# Altium footprint library Misc SMT.PcbLib: 40 footprints (part 1 of 3)
Each footprint in its own frame and in the unit in brackets; x right, y up, seen from the top. Pads: shape width x height; smd on the part's side, far side on the other; paste and mask are expansions set on the pad; w line width, h text height; cw(c..) or ccw(c..) is an arc to the next point about the centre after c.
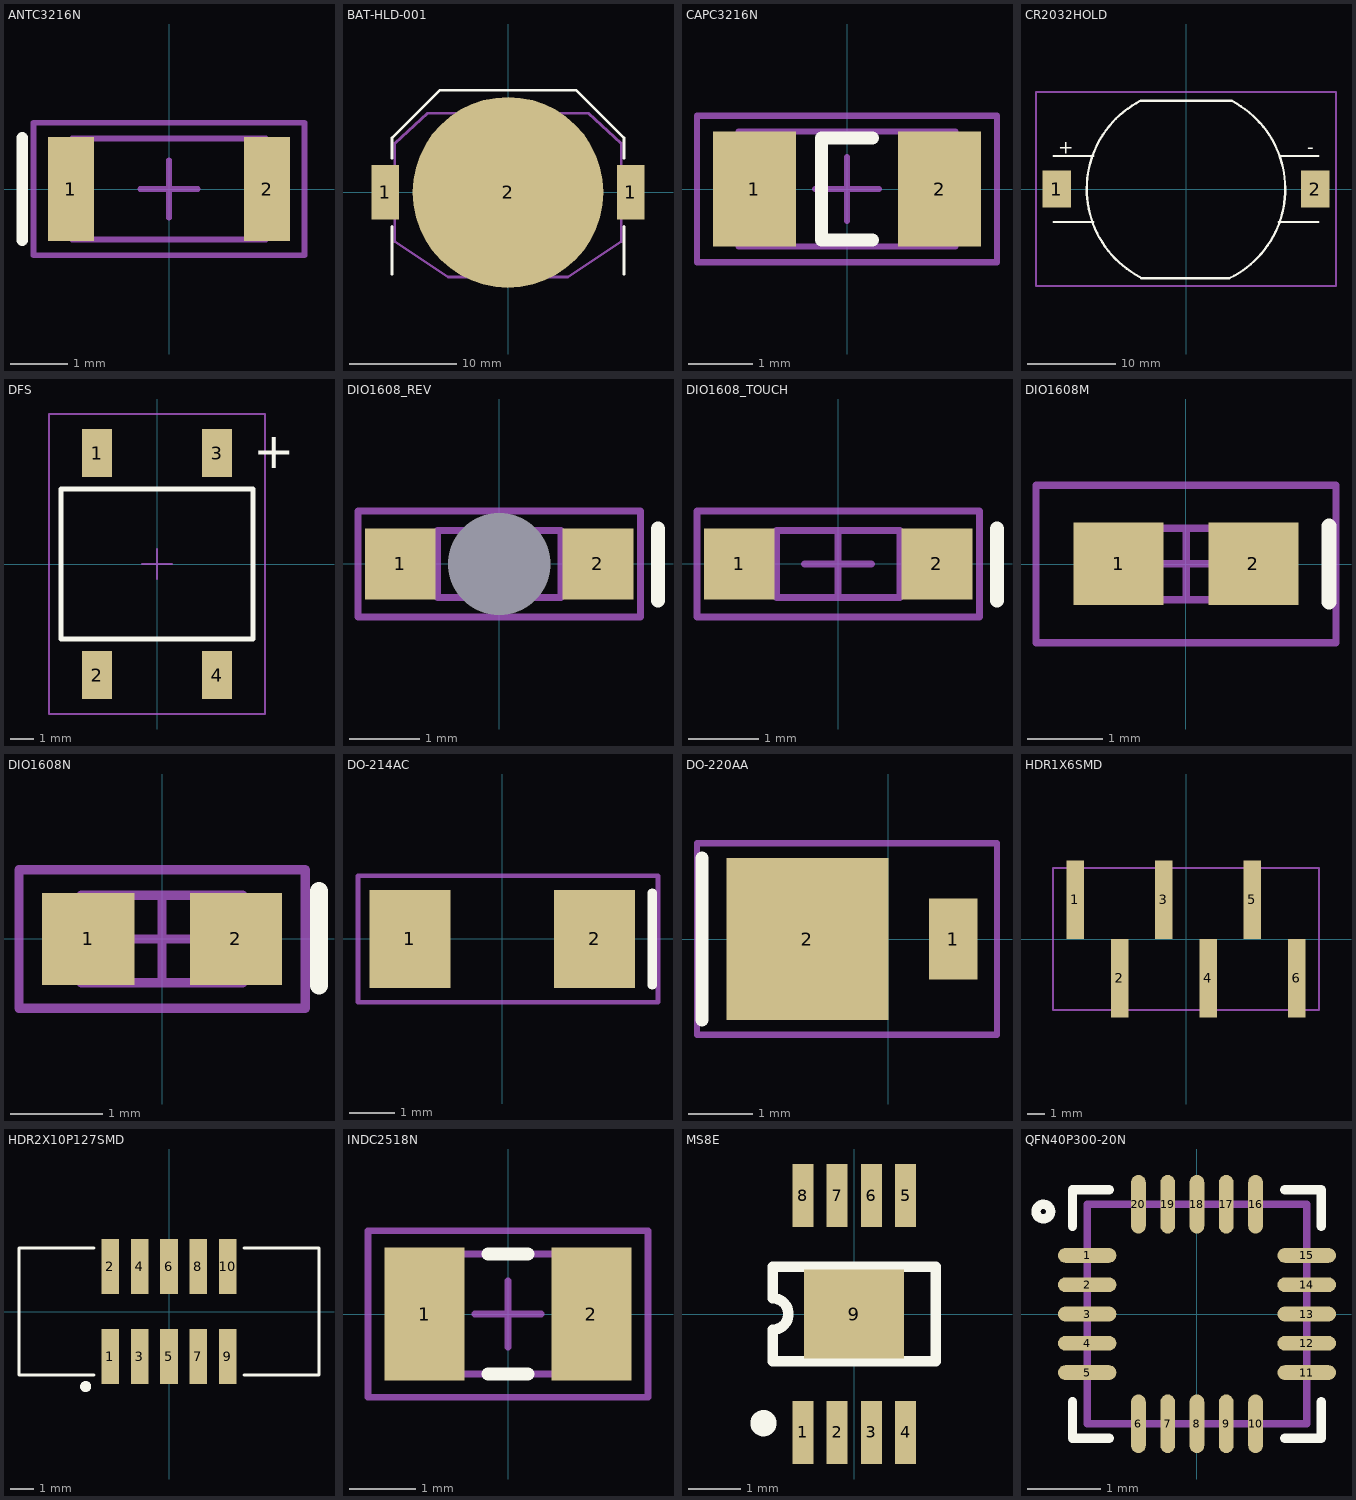
[diagram p0: the footprints below, top view; thin cyan lines are the x and y axes]

## ANTC3216N [mm] "Chip Antenna, Body 3.2x1.6mm, IPC Medium Density"
height 0.71
pads (2):
  rect 0.8x1.8 smd: 1(-1.7,0) 2(1.7,0)
Top Overlay:
  lines w0.2: -2.54,-0.889 -2.54,0.889
Mechanical 13:
  lines w0.1: -1.675,-0.875 -1.675,0.875 1.675,0.875 1.675,-0.875 -1.675,-0.875
Mechanical 15:
  lines w0.1: -0.5,0 0.5,0 ; 0,-0.5 0,0.5 ; -2.35,-1.15 -2.35,1.15 2.35,1.15 2.35,-1.15 -2.35,-1.15
3D body: height 0.71, standoff 0, extent -1.675,-0.875 1.675,0.875

## BAT-HLD-001 [mm] "CR2032 Battery Holder"
height 4.318
pads (3):
  rect 2.54x5.08 smd: 1(-11.43,0) 1(11.43,0)
  round 17.78 smd: 2(0,0)
Top Overlay:
  lines w0.254: -10.795,-7.62 -10.795,-3.175 ; -10.795,3.175 -10.795,5.08 -6.35,9.525 6.35,9.525 10.795,5.08 10.795,3.175 ; 10.795,-7.62 10.795,-3.175
Mechanical 13:
  lines w0.254: -10.541,-4.572 -10.541,4.572 -7.493,7.366 7.493,7.366 10.541,4.572 10.541,-4.572 5.588,-7.874 -5.588,-7.874 -10.541,-4.572
3D body: height 4.32, standoff 0, extent -10.541,-7.874 10.541,7.366

## CAPC3216N [mm] "Chip Capacitor, Body 3.2x1.6mm, IPC Medium Density"
height 1.35
pads (2):
  rect 1.3x1.8 smd: 1(-1.45,0) 2(1.45,0)
Top Overlay:
  lines w0.2: 0.4,-0.8 -0.4,-0.8 -0.4,0.8 0.4,0.8
Mechanical 13:
  lines w0.1: -1.7,-0.9 1.7,-0.9 1.7,0.9 -1.7,0.9 -1.7,-0.9
Mechanical 15:
  lines w0.1: -0.5,0 0.5,0 ; 0,-0.5 0,0.5 ; -2.35,-1.15 2.35,-1.15 2.35,1.15 -2.35,1.15 -2.35,-1.15
3D body: height 1.35, standoff 0, extent -1.7,-0.9 1.7,0.9

## CR2032HOLD [mm] "BU2032SM-HD-G"
height 5.3
pads (2):
  rect 3.2x4.2 smd: 1(-14.65,0) 2(14.65,0)
Top Overlay:
  lines w0.254: -15,-3.75 -10.5,-3.75 ; -15,3.75 -10.5,3.75 ; -5.229,-9.961 cw(c0,0) -5.134,10.01 5.18,10.01 ; -5.079,-10.111 4.932,-10.111 ccw(c0,0) 5.229,9.961 ; 10.5,-3.75 15,-3.75 ; 10.75,3.75 15,3.75
  text "-" at 13.75,4 h1.52
  text "+" at -14.5,4 h1.52
Mechanical 15:
  lines w0.254: -17,-11 17,-11 17,11 -17,11 -17,-11
3D body: height 5.3, standoff 0, extent -9.921,-10.23 10,9.73

## DFS [mil] "Bridge rectifier - Comchip DFxxxS"
height 100
pads (4):
  rect 50x80 smd: 1(-100,185) 2(-100,-185) 3(100,185) 4(100,-185)
Top Overlay:
  lines w7.87: -160,-125 160,-125 160,125 -160,125 -160,-125
  text "+" at 160,160 h60
Mechanical 15:
  lines w3.94: -25,0 25,0 ; 0,-25 0,25 ; -180,-250 -180,250 180,250 180,-250 -180,-250
3D body: height 100, standoff 0, extent -160,-125 160,125

## DIO1608_REV [mm] "Chip LED, Body 1.6x0.8mm, IPC Medium Density"
height 0.85
pads (3):
  rect 1x1 smd: 1(-1.4,0) 2(1.4,0)
  round 0 hole 1.45 mask+0.051: 2(0,0)
Top Overlay:
  lines w0.2: 2.25,-0.516 2.25,0.5
Mechanical 13:
  lines w0.1: -0.875,-0.475 0.875,-0.475 0.875,0.475 -0.875,0.475 -0.875,-0.475
Mechanical 15:
  lines w0.1: -0.475,0 0.475,0 ; 0,-0.475 0,0.475 ; -2,-0.75 2,-0.75 2,0.75 -2,0.75 -2,-0.75
3D body: height 0.85, standoff 0, extent -0.875,-0.475 0.875,0.475

## DIO1608_TOUCH [mm] "Chip LED, Body 1.6x0.8mm, IPC Medium Density"
height 0.85
pads (2):
  rect 1x1 smd: 1(-1.4,0) 2(1.4,0)
Top Overlay:
  lines w0.2: 2.25,-0.516 2.25,0.5
Mechanical 13:
  lines w0.1: -0.875,-0.475 0.875,-0.475 0.875,0.475 -0.875,0.475 -0.875,-0.475
Mechanical 15:
  lines w0.1: -0.475,0 0.475,0 ; 0,-0.475 0,0.475 ; -2,-0.75 2,-0.75 2,0.75 -2,0.75 -2,-0.75
3D body: height 0.85, standoff 0, extent -0.875,-0.475 0.875,0.475

## DIO1608M [mm] "Chip LED, Body 1.6x0.8mm, IPC Low Density"
height 0.85
pads (2):
  rect 1.2x1.1 smd: 1(-0.9,0) 2(0.9,0)
Top Overlay:
  lines w0.2: 1.905,-0.508 1.905,0.508
Mechanical 13:
  lines w0.1: -0.875,-0.475 0.875,-0.475 0.875,0.475 -0.875,0.475 -0.875,-0.475
Mechanical 15:
  lines w0.1: -0.475,0 0.475,0 ; 0,-0.475 0,0.475 ; -2,-1.05 2,-1.05 2,1.05 -2,1.05 -2,-1.05
3D body: height 0.85, standoff 0, extent -0.875,-0.475 0.875,0.475

## DIO1608N [mm] "Chip LED, Body 1.6x0.8mm, IPC Medium Density"
height 0.85
pads (2):
  rect 1x1 smd: 1(-0.8,0) 2(0.8,0)
Top Overlay:
  lines w0.2: 1.7,-0.5 1.7,0.516
Mechanical 13:
  lines w0.1: -0.875,-0.475 -0.875,0.475 0.875,0.475 0.875,-0.475 -0.875,-0.475
Mechanical 15:
  lines w0.1: -0.475,0 0.475,0 ; 0,-0.475 0,0.475 ; -1.55,-0.75 -1.55,0.75 1.55,0.75 1.55,-0.75 -1.55,-0.75
3D body: height 0.85, standoff 0, extent -0.875,-0.475 0.875,0.475

## DO-214AC [mil] "Surface mount diode, \"SMA\""
height 110
pads (2):
  rect 70x85 smd: 1(-80,0) 2(80,0)
Top Overlay:
  lines w7.87: 130,-40 130,40
Mechanical 15:
  lines w3.94: -125,-55 135,-55 135,55 -125,55 -125,-55

## DO-220AA [mil] "Surface mount diode, \"SMP\""
height 45
pads (2):
  rect 30x50 smd: 1(40,0)
  rect 100x100 smd: 2(-50,0)
Top Overlay:
  lines w7.87: -115,-50 -115,50
Mechanical 15:
  lines w3.94: -118.11,-59.06 -118.11,59.06 66.93,59.06 66.93,-59.06 -118.11,-59.06

## HDR1X6SMD [mm]
pads (6):
  rect 1x4.5 smd: 1(-6.35,2.25) 2(-3.81,-2.25) 3(-1.27,2.25) 4(1.27,-2.25) 5(3.81,2.25) 6(6.35,-2.25)
Mechanical 13:
  lines w0.127: -7.62,-4.064 7.62,-4.064 7.62,4.064 -7.62,4.064 -7.62,-4.064
3D body: height 9.9, standoff 0, extent -7.62,-1.27 7.62,1.27

## HDR2X10P127SMD [mm]
pads (10):
  rect 0.76x2.4 smd: 1(-2.54,-1.95) 2(-2.54,1.95) 3(-1.27,-1.95) 4(-1.27,1.95) 5(0,-1.95) 6(0,1.95) 7(1.27,-1.95) 8(1.27,1.95) 9(2.54,-1.95) 10(2.54,1.95)
Top Overlay:
  circle w0.254: c-3.612,-3.25 r0.112
  lines w0.127: -3.25,-2.75 -6.5,-2.75 -6.5,2.75 -3.25,2.75 ; 3.25,-2.75 6.5,-2.75 6.5,2.75 3.25,2.75
3D body: height 5.6, standoff 0, extent -6.5,-2.75 6.5,2.75

## INDC2518N [mm] "Chip Inductor, Body 2.5x1.8mm, [Taiyo Yuden]"
height 1.8
pads (2):
  rect 1.2x2 smd: 1(-1.25,0) 2(1.25,0)
Top Overlay:
  lines w0.2: -0.3,-0.9 0.3,-0.9 ; -0.3,0.9 0.3,0.9
Mechanical 13:
  lines w0.1: -1.25,-0.9 -1.25,0.9 1.25,0.9 1.25,-0.9 -1.25,-0.9
Mechanical 15:
  lines w0.1: -0.5,0 0.5,0 ; 0,-0.5 0,0.5 ; -2.1,-1.25 -2.1,1.25 2.1,1.25 2.1,-1.25 -2.1,-1.25
3D body: height 1, standoff 0, extent -1.25,-0.9 1.25,0.9

## MS8E [mm] "Shrink Small Outline; 8 Leads; Body Width 3 mm; Pitch 0.65 mm"
height 1.17
pads (9):
  rect 0.4x1.2 smd: 1(-0.975,-2.25) 2(-0.325,-2.25) 3(0.325,-2.25) 4(0.975,-2.25) 5(0.975,2.25) 6(0.325,2.25) 7(-0.325,2.25) 8(-0.975,2.25)
  rect 1.9x1.7 smd: 9(0,0)
Top Overlay:
  circle w0.25: c-1.725,-2.075 r0.125
  lines w0.2: -1.55,-0.9 -1.55,-0.3 ccw(c-1.55,0) -1.55,0.3 -1.55,0.9 1.55,0.9 1.55,-0.9 -1.55,-0.9

## QFN40P300-20N [mm] "QFN, 20-Leads, Body 3x3mm, Pitch 0.4mm"
height 0.6
pads (20):
  rrect100% 0.8x0.2 smd mask+0.051: 1(-1.5,0.8) 2(-1.5,0.4) 3(-1.5,0) 4(-1.5,-0.4) 5(-1.5,-0.8) 11(1.5,-0.8) 12(1.5,-0.4) 13(1.5,0) 14(1.5,0.4) 15(1.5,0.8)
  rrect100% 0.2x0.8 smd mask+0.051: 6(-0.8,-1.5) 7(-0.4,-1.5) 8(0,-1.5) 9(0.4,-1.5) 10(0.8,-1.5) 16(0.8,1.5) 17(0.4,1.5) 18(0,1.5) 19(-0.4,1.5) 20(-0.8,1.5)
Top Overlay:
  circle w0.127: c-2.1,1.4 r0.1
  lines w0.127: -1.7,-1.2 -1.7,-1.7 -1.2,-1.7 ; -1.7,1.2 -1.7,1.7 -1.2,1.7 ; 1.2,-1.7 1.7,-1.7 1.7,-1.2 ; 1.2,1.7 1.7,1.7 1.7,1.2
Mechanical 13:
  lines w0.1: -1.5,-1.5 1.5,-1.5 1.5,1.5 -1.5,1.5 -1.5,-1.5
3D body: height 0.6, standoff 0, extent -1.5,-1.5 1.5,1.5